# Altium footprint library devices.PcbLib: 9 footprints
Each footprint in its own frame and in the unit in brackets; x right, y up, seen from the top. Pads: shape width x height; smd on the part's side, far side on the other; paste and mask are expansions set on the pad; w line width, h text height; cw(c..) or ccw(c..) is an arc to the next point about the centre after c.
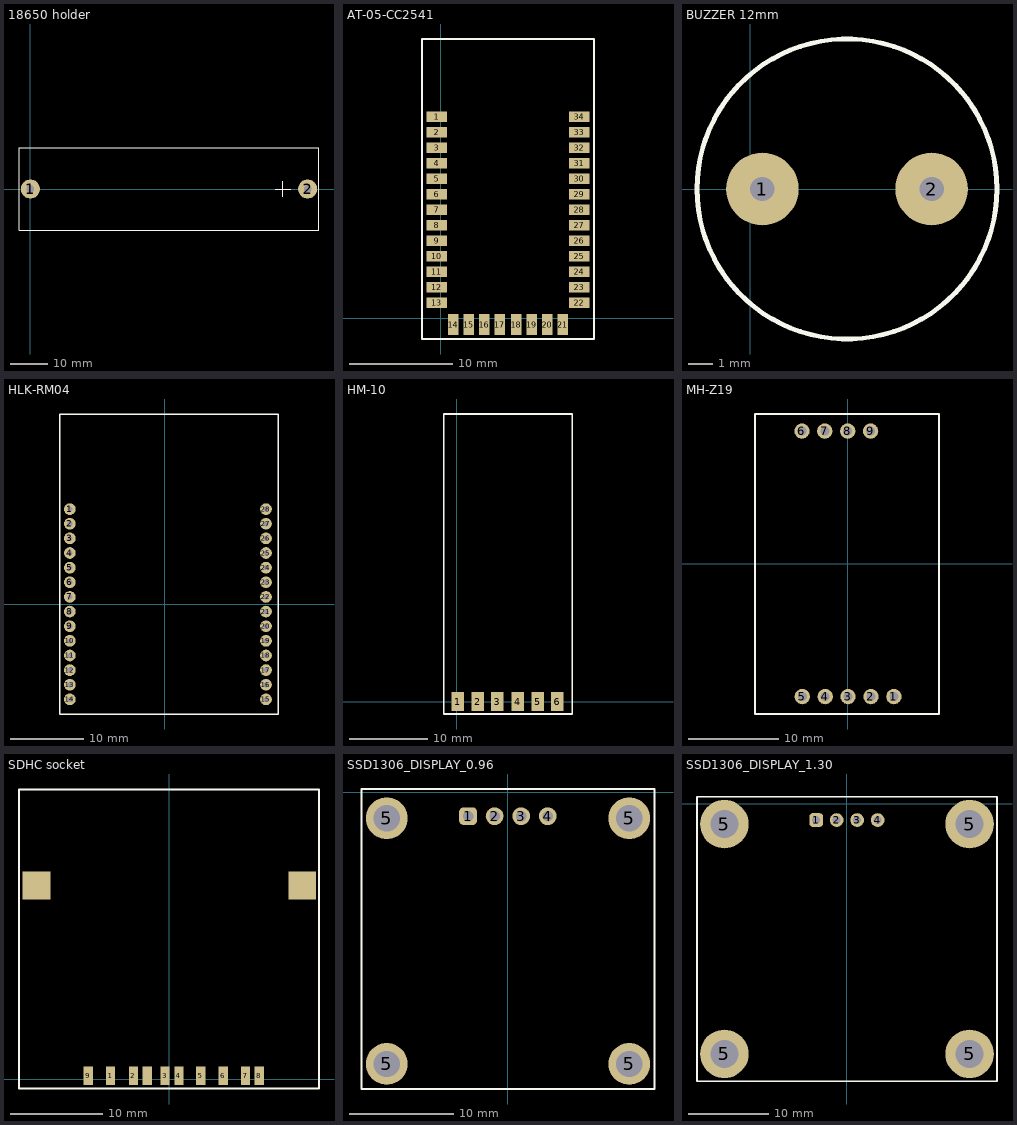
[diagram p0: the footprints below, top view; thin cyan lines are the x and y axes]

## 18650 holder [mm]
height 1.2
pads (2):
  round 5 hole 2 mask+0.1: 1(0,0) 2(73,0)
Top Overlay:
  lines w0.2: -3,-10.9 76,-10.9 76,10.9 -3,10.9 -3,-10.9
  lines w0.254: 64.5,0 68.5,0 ; 66.5,-2 66.5,2
3D body "BK-18650-PC2.stp": height 21.41, standoff -3.3, extent -1.981,-10.49 74.981,10.49

## AT-05-CC2541 [mm]
height 1.2
pads (34):
  rect 2x1 smd mask+0.1: 1(-0.4,19.5) 2(-0.4,18) 3(-0.4,16.5) 4(-0.4,15) 5(-0.4,13.5) 6(-0.4,12) 7(-0.4,10.5) 8(-0.4,9) 9(-0.4,7.5) 10(-0.4,6) 11(-0.4,4.5) 12(-0.4,3) 13(-0.4,1.5) 22(13.4,1.5) 23(13.4,3) 24(13.4,4.5) 25(13.4,6) 26(13.4,7.5) 27(13.4,9) 28(13.4,10.5) 29(13.4,12) 30(13.4,13.5) 31(13.4,15) 32(13.4,16.5) 33(13.4,18) 34(13.4,19.5)
  rect 1x2 smd mask+0.1: 14(1.2,-0.6) 15(2.7,-0.6) 16(4.2,-0.6) 17(5.7,-0.6) 18(7.3,-0.6) 19(8.8,-0.6) 20(10.3,-0.6) 21(11.8,-0.6)
Top Overlay:
  lines w0.2: -1.8,-2 -1.8,27 14.8,27 14.8,-2 -1.8,-2
3D body "HC-06.SLDPRT": height 1.63, standoff 0, extent 0,-0.25 13,26.65

## BUZZER 12mm [mm]
height 1.2
pads (2):
  round 3 hole 1 mask+0.1: 1(0.5,0) 2(7.5,0)
Top Overlay:
  circle w0.2: c4,0 r6.2
3D body "Buzzer.step": height 8.5, standoff -5.5, extent -2,-6 10,6

## HLK-RM04 [mm]
height 1.2
pads (28):
  round 1.6 hole 0.7 mask+0.1: 1(-13,13) 2(-13,11) 3(-13,9) 4(-13,7) 5(-13,5) 6(-13,3) 7(-13,1) 8(-13,-1) 9(-13,-3) 10(-13,-5) 11(-13,-7) 12(-13,-9) 13(-13,-11) 14(-13,-13) 15(13.8,-13) 16(13.8,-11) 17(13.8,-9) 18(13.8,-7) 19(13.8,-5) 20(13.8,-3) 21(13.8,-1) 22(13.8,1) 23(13.8,3) 24(13.8,5) 25(13.8,7) 26(13.8,9) 27(13.8,11) 28(13.8,13)
Top Overlay:
  lines w0.2: -14.4,-15 15.5,-15 15.5,26 -14.4,26 -14.4,-15
3D body "User Library-HLK-RM04.step": height 8.82, standoff -0.95, extent -14,-14.5 15.06,25.6

## HM-10 [mm]
height 1.2
pads (6):
  rect 1.6x2.4 smd mask+0.1: 1(0.1,0) 2(2.64,0) 3(5.18,0) 4(7.82,0) 5(10.36,0) 6(12.9,0)
Top Overlay:
  lines w0.2: -1.7,-1.6 -1.7,36.9 14.8,36.9 14.8,-1.6 -1.7,-1.6
3D body "HM10.stp": height 3.7, standoff -0.02, extent -1.3,-1.2 14.4,36.5

## MH-Z19 [mm]
height 1.2
pads (9):
  round 1.7 hole 1: 1(5.1,-14.77) 2(2.56,-14.77) 3(0.02,-14.77) 4(-2.52,-14.77) 5(-5.06,-14.77)
  round 1.7 hole 1 mask+0.1: 6(-5.1,14.7) 7(-2.56,14.7) 8(-0.02,14.7) 9(2.52,14.7)
Top Overlay:
  lines w0.2: -10.3,-16.7 10.1,-16.7 10.1,16.6 -10.3,16.6 -10.3,-16.7
3D body "MH-z19_c02_sens.STEP": height 11.25, standoff 2.05, extent -10,-16.4 9.75,16.3

## SDHC socket [mm]
height 1.2
pads (12):
  rect 1x2 smd mask+0.1: 1(-6.375,0.4) 2(-3.9,0.4) 3(-0.475,0.4) 4(1.025,0.4) 5(3.4,0.4) 6(5.825,0.4) 7(8.25,0.4) 8(9.725,0.4) 9(-8.8,0.4) ""(-2.4,0.4)
  rect 3x3 smd mask+0.1: ""(-14.4,21) ""(14.4,21)
Top Overlay:
  lines w0.2: -16.3,-1 -16.3,31.4 16.2,31.4 16.2,-1 -16.3,-1
3D body "SD_CARD.stp": height 2.5, standoff -0.1, extent -14.25,0 14.25,31.1

## SSD1306_DISPLAY_0.96 [mm]
height 1.2
pads (8):
  rrect50% 1.7x1.7 hole 1: 1(-3.82,-2.3)
  round 1.7 hole 1: 2(-1.28,-2.3) 3(1.26,-2.3) 4(3.8,-2.3)
  round 4 hole 2.5 mask+0.1: 5(-11.6,-26) 5(-11.6,-2.5) 5(11.6,-26) 5(11.6,-2.5)
Top Overlay:
  lines w0.2: -14,-28.4 14,-28.4 14,0.3 -14,0.3 -14,-28.4
3D body "OLED-128x64-0.96.step": height 1.47, standoff -9.37, extent -13.35,-27.86 13.35,0

## SSD1306_DISPLAY_1.30 [mm]
height 1.2
pads (8):
  rrect50% 1.7x1.7 hole 1 mask+0.1: 1(-3.82,-2)
  round 1.7 hole 1 mask+0.1: 2(-1.28,-2) 3(1.26,-2) 4(3.8,-2)
  round 6 hole 3.5 mask+0.1: 5(-15.2,-2.5) 5(-15.2,-31) 5(15.2,-2.5) 5(15.2,-31)
Top Overlay:
  lines w0.2: -18.6,-34.4 18.6,-34.4 18.6,0.9 -18.6,0.9 -18.6,-34.4
3D body "SSD1306.stp": height 2.27, standoff -1.06, extent -17.7,-33.5 17.7,0